# EAGLE library part RELAY_DIP16 (library mbed-switches)
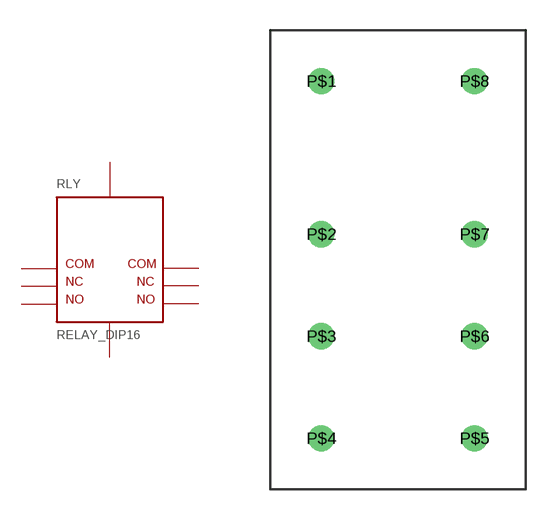
[diagram p0: symbol with the pads of RELAY_DIP16; footprint RELAY_DIP16]

Designator prefix RLY

## RELAY_DIP16  [RELAY_DIP16]
P$1  P$1
P$2  P$2
P$3  P$3
P$4  P$4
P$5  P$5
P$6  P$6
P$7  P$7
P$8  P$8

## Footprint RELAY_DIP16 (pad centres in mm)
drill 0.8 round: P$1 -3.81,8.89; P$2 -3.81,1.27; P$3 -3.81,-3.81; P$4 -3.81,-8.89; P$5 3.81,-8.89; P$6 3.81,-3.81; P$7 3.81,1.27; P$8 3.81,8.89